# EAGLE library part DIN6 (library sj_connectors)
6pin DIN Connector
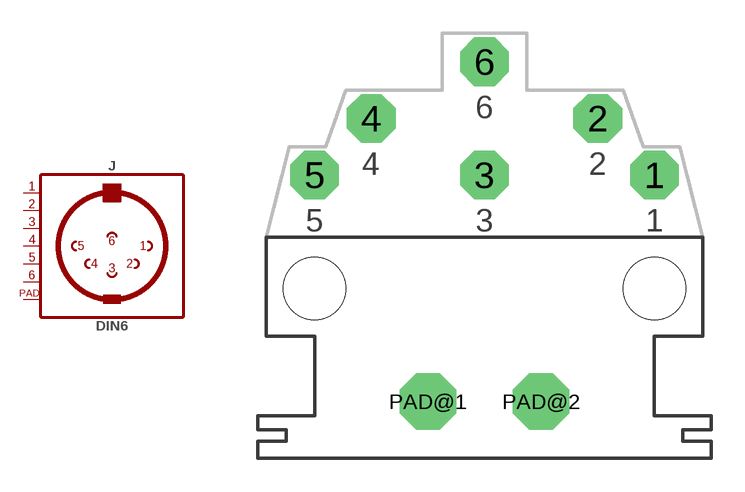
[diagram p1: symbol with the pads of DIN6; footprint DIN6]

Designator prefix J

## DIN6  [DIN6]
1  1  pas
2  2  pas
3  3  pas
4  4  pas
5  5  pas
6  6  pas
PAD@1  PAD  pas
PAD@2  PAD  pas

## Footprint DIN6 (pad centres in mm)
6pin DIN Connector Package
drill 1.321 pad 2.184 octagon: 1 7.62,5.08; 2 5.08,7.62; 3 0,5.08; 4 -5.08,7.62; 5 -7.62,5.08; 6 0,10.16
drill 1.321 pad 2.54 octagon: PAD@1 -2.54,-5.08; PAD@2 2.54,-5.08
hole 2.794 at 7.62,0
hole 2.794 at -7.62,0